# EAGLE library part _BASE-ADJUSTABLE-VOLTAGE-REGULATOR_ (library Base)
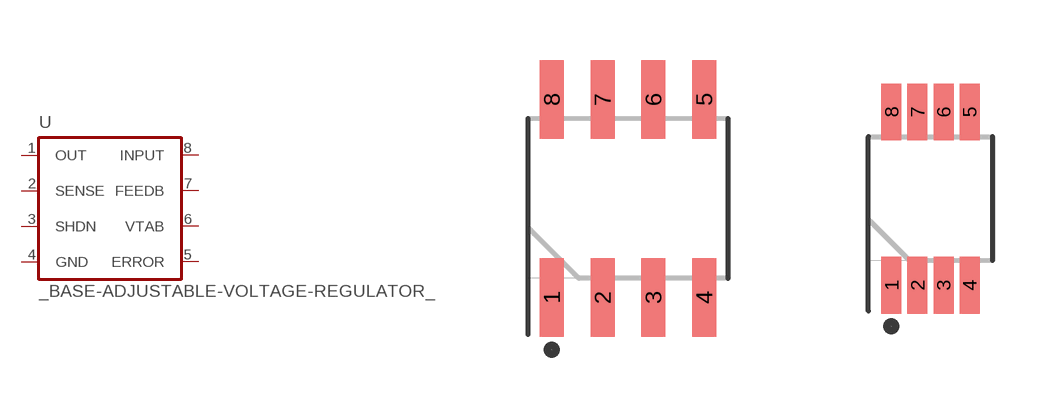
[diagram p8: symbol with the pads of SOIC127P600X175-8L86HS; footprints SOIC127P600X175-8L86HS, SOP65P495X110-8L30HS]

Designator prefix -

## _BASE-ADJUSTABLE-VOLTAGE-REGULATOR_SOIC8  [SOIC127P600X175-8L86HS]
1  OUT  out
2  SENSE  in
3  SHDN  in
4  GND  pwr
5  ERROR  out
6  VTAB  in
7  FEEDB  out
8  INPUT  pas

## _BASE-ADJUSTABLE-VOLTAGE-REGULATOR_MSOP8  [SOP65P495X110-8L30HS]
Pads as for SOIC127P600X175-8L86HS

## Footprint SOIC127P600X175-8L86HS (pad centres in mm)
smd 0.6 x 1.97: 1 -1.905,-2.475; 2 -0.635,-2.475; 3 0.635,-2.475; 4 1.905,-2.475; 5 1.905,2.475; 6 0.635,2.475; 7 -0.635,2.475; 8 -1.905,2.475

## Footprint SOP65P495X110-8L30HS (pad centres in mm)
smd 0.5 x 1.42: 1 -0.975,-2.165; 2 -0.325,-2.165; 3 0.325,-2.165; 4 0.975,-2.165; 5 0.975,2.165; 6 0.325,2.165; 7 -0.325,2.165; 8 -0.975,2.165